# EAGLE library part BH1750FVI-TR (library BH1750FVI-TR)
Light to Digital Ambient Light Sensor Digital O/P 1lux to 65535lux 6-Pin WSOF Embossed T/R Check availability <https://pricing.snapeda.com/parts/BH1750FVI-TR/Rohm/view-part?ref=eda>
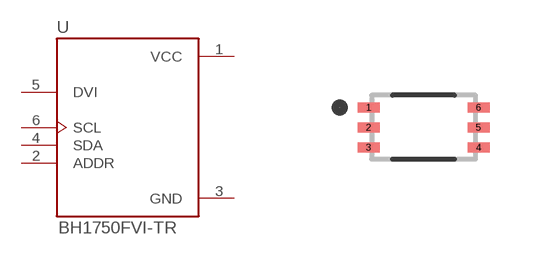
[diagram p0: symbol with the pads of XDCR_BH1750FVI-TR; footprint XDCR_BH1750FVI-TR]

Designator prefix U

## BH1750FVI-TR (Availability: In Stock; Description: Optical Sensor Ambient 560nm I²C 6-SMD, Flat Lead Exposed Pad; MF: Rohm; MP: BH1750FVI-TR; Package: SMD-6 ROHM Semiconductor; Price: None; Purchase-URL: https://pricing.snapeda.com/search/part/BH1750FVI-TR/?ref=eda)  [XDCR_BH1750FVI-TR]
1  VCC  pwr
2  ADDR  in
3  GND  pwr
4  SDA
5  DVI  in
6  SCL  in

## Footprint XDCR_BH1750FVI-TR (pad centres in mm)
smd 0.55 x 0.25: 1 -1.375,0.5; 2 -1.375,0; 3 -1.375,-0.5; 4 1.375,-0.5; 5 1.375,0; 6 1.375,0.5